# EAGLE library part PSH02-08 (library #PaJa_konektory)
Konektory se zamkem - vidlice - 8pin
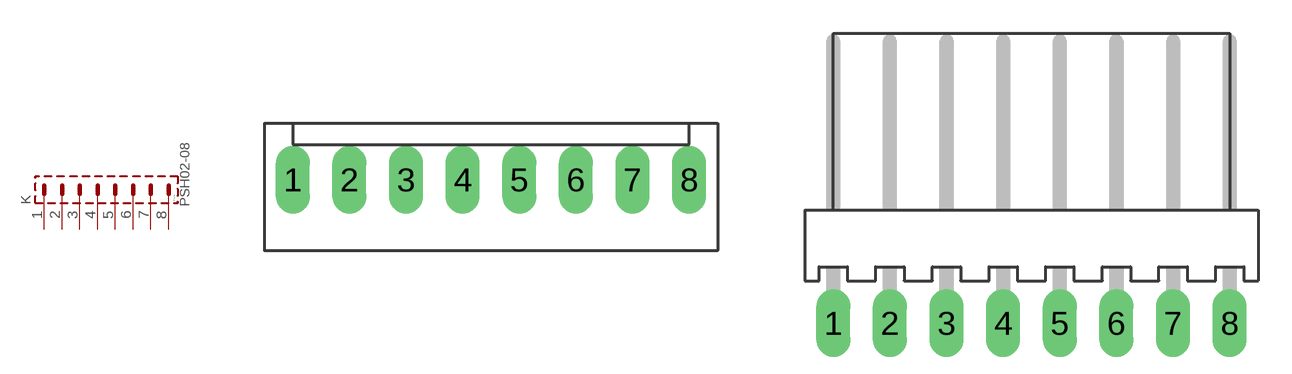
[diagram p11: symbol with the pads of PSH02-08P; footprints PSH02-08P, PSH02-08W]

Designator prefix K

## PSH02-08P  [PSH02-08P]
1  1  pas
2  2  pas
3  3  pas
4  4  pas
5  5  pas
6  6  pas
7  7  pas
8  8  pas

## PSH02-08W  [PSH02-08W]
Pads as for PSH02-08P

## Footprint PSH02-08P (pad centres in mm)
drill 1.016 pad 1.422 long: 1 -8.89,0; 2 -6.35,0; 3 -3.81,0; 4 -1.27,0; 5 1.27,0; 6 3.81,0; 7 6.35,0; 8 8.89,0

## Footprint PSH02-08W (pad centres in mm)
drill 1.016 pad 1.422 long: 1 -8.89,0; 2 -6.35,0; 3 -3.81,0; 4 -1.27,0; 5 1.27,0; 6 3.81,0; 7 6.35,0; 8 8.89,0